# EAGLE library part MOSFET_MODULE (library LickportLibrary)
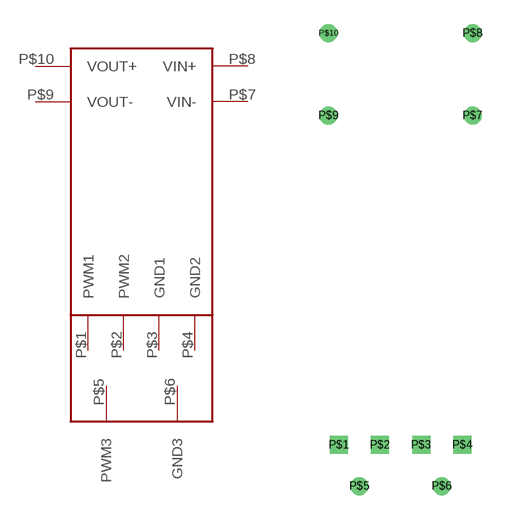
[diagram p1: symbol with the pads of MOSFET_MODULE; footprint MOSFET_MODULE]

Designator prefix -

## MOSFET_MODULE  [MOSFET_MODULE]
P$1  PWM1
P$2  PWM2
P$3  GND1
P$4  GND2
P$5  PWM3
P$6  GND3
P$7  VIN-
P$8  VIN+
P$9  VOUT-
P$10  VOUT+

## Footprint MOSFET_MODULE (pad centres in mm)
drill 0.6 square: P$1 -2.54,3.81; P$2 0,3.81; P$3 2.54,3.81; P$4 5.08,3.81
drill 0.6: P$5 -1.27,1.27; P$6 3.81,1.27; P$7 5.715,24.13; P$8 5.715,29.21; P$9 -3.175,24.13; P$10 -3.175,29.21